# EAGLE library part AAPROG (library kanflo)
AAprog The programming interface used in the AAdiono Zero. The DEVICE variant is placed on the target. A hand held programming adapter can be designed using the PINS variant with the addition of P75-B11.02 mm (40 mil) pogo pins. The MIRROR variant can be used for designing adapter boards with the pins facing upwards.
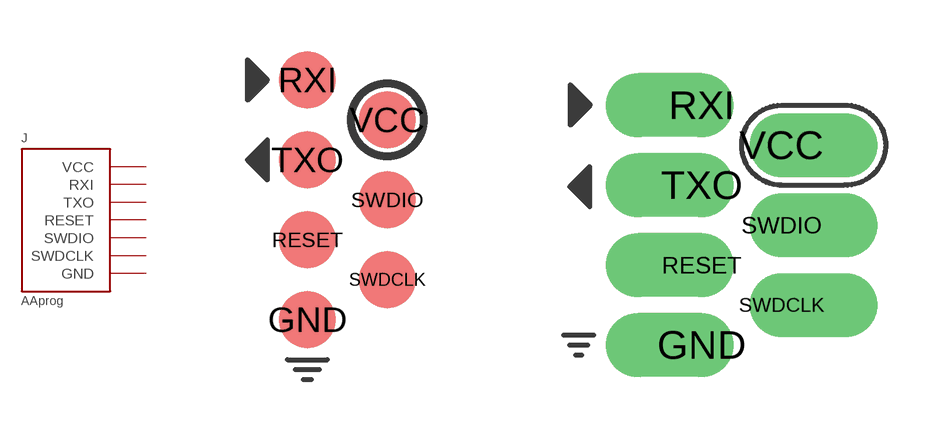
[diagram p22: symbol with the pads of AAPROG; footprints AAPROG, AAPROG-TH]

Designator prefix J

## AAPROG-DEVICE  [AAPROG]
GND  GND  pwr
RESET  RESET  in
RXI  RXI  in
SWDCLK  SWDCLK  in
SWDIO  SWDIO
TXO  TXO  out
VCC  VCC  pwr

## AAPROG-PINS  [AAPROG-TH]
Pads as for AAPROG

## AAPROG-PINS-MIRROR  [AAPROG-TH-MIRROR]
Pads as for AAPROG

## Footprint AAPROG (pad centres in mm)
smd 1.422 x 1.422: GND -1,-3; RESET -1,-1; RXI -1,3; SWDCLK 1,-2; SWDIO 1,0; TXO -1,1; VCC 1,2

## Footprint AAPROG-TH (pad centres in mm)
drill 1.016 pad 1.6 offset: GND -1,-3; RESET -1,-1; RXI -1,3; SWDCLK 1,-2; SWDIO 1,0; TXO -1,1; VCC 1,2

## Footprint AAPROG-TH-MIRROR (pad centres in mm)
drill 1.016 pad 1.6 offset: GND 3.064,-3; RESET 3.064,-1; RXI 3.064,3; SWDCLK 1,-2; SWDIO 1,0; TXO 3.064,1; VCC 1,2